# EAGLE library part MP2307DN-LF-Z (library MP2307DN-LF-Z)
MP2307 Series 23 V 3 A 380 KHz Synchronous Rectified Step-Down Converter-SOIC-8
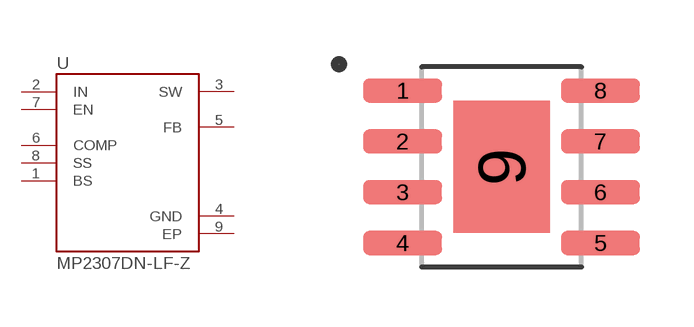
[diagram p0: symbol with the pads of SOIC127P600X170-9N; footprint SOIC127P600X170-9N]

Designator prefix U

## MP2307DN-LF-Z (Description: Conv DC-DC Single Step Down 4.75V to 23V 8-Pin SOIC T/R; Digi-Key_Part_Number: 1589-1576-1-ND; Digi-Key_Purchase_URL: https://www.digikey.com/product-detail/en/monolithic-power-systems-inc/MP2307DN-LF-Z/1589-1576-1-ND/9433342?utm_source=snapeda&utm_medium=aggregator&utm_campaign=symbol; MF: Monolithic Power; MP: MP2307DN-LF-Z; Package: SOIC-8 Monolithic Power)  [SOIC127P600X170-9N]
1  BS  pas
2  IN  in
3  SW  out
4  GND  pwr
5  FB  in
6  COMP  pas
7  EN  in
8  SS  pas
9  EP  pwr

## Footprint SOIC127P600X170-9N (pad centres in mm)
smd 1.97 x 0.6: 1 -2.475,1.905; 2 -2.475,0.635; 3 -2.475,-0.635; 4 -2.475,-1.905; 5 2.475,-1.905; 6 2.475,-0.635; 7 2.475,0.635; 8 2.475,1.905
smd 2.41 x 3.3: 9 0,0